# EAGLE library part HDMI (library work)
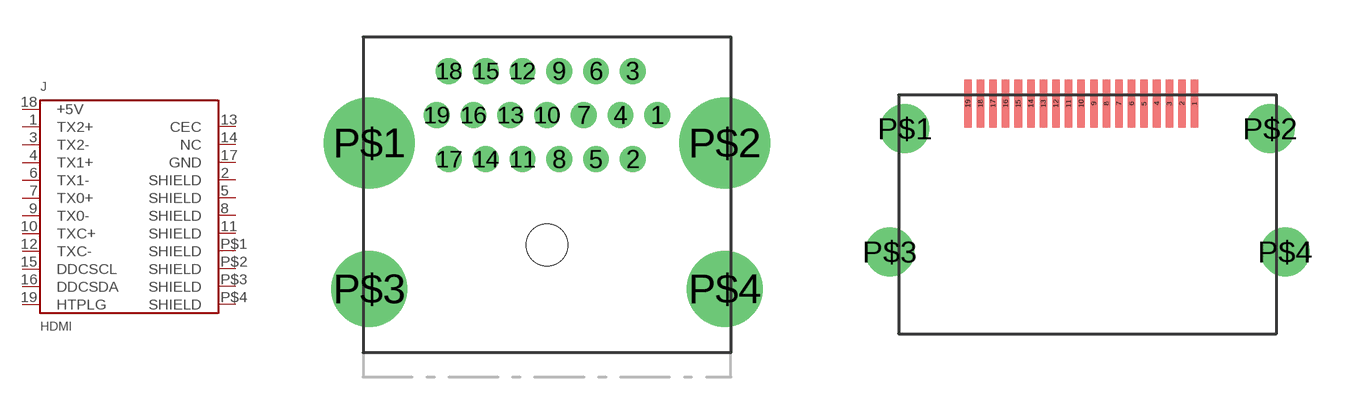
[diagram p44: symbol with the pads of HDMI_PTH; footprints HDMI_PTH, HDMI_SMD]

Designator prefix J

## HDMI-PTH  [HDMI_PTH]
1  TX2+
2  SHIELD
3  TX2-
4  TX1+
5  SHIELD
6  TX1-
7  TX0+
8  SHIELD
9  TX0-
10  TXC+
11  SHIELD
12  TXC-
13  CEC
14  NC
15  DDCSCL
16  DDCSDA
17  GND
18  +5V
19  HTPLG
P$1  SHIELD
P$2  SHIELD
P$3  SHIELD
P$4  SHIELD

## HDMI-SMD  [HDMI_SMD]
Pads as for HDMI_PTH

## Footprint HDMI_PTH (pad centres in mm)
drill 0.55: 1 4.5,0; 2 3.5,-1.8; 3 3.5,1.8; 4 3,0; 5 2,-1.8; 6 2,1.8; 7 1.5,0; 8 0.5,-1.8; 9 0.5,1.8; 10 0,0; 11 -1,-1.8; 12 -1,1.8; 13 -1.5,0; 14 -2.5,-1.8; 15 -2.5,1.8; 16 -3,0; 17 -4,-1.8; 18 -4,1.8; 19 -4.5,0
drill 2.7: P$1 -7.25,-1.14; P$2 7.25,-1.14
drill 2.1: P$3 -7.25,-7.1; P$4 7.25,-7.1
hole 1.7 at 0,-5.3

## Footprint HDMI_SMD (pad centres in mm)
smd 0.3 x 1.9: 1 4.25,0; 2 3.75,0; 3 3.25,0; 4 2.75,0; 5 2.25,0; 6 1.75,0; 7 1.25,0; 8 0.75,0; 9 0.25,0; 10 -0.25,0; 11 -0.75,0; 12 -1.25,0; 13 -1.75,0; 14 -2.25,0; 15 -2.75,0; 16 -3.25,0; 17 -3.75,0; 18 -4.25,0; 19 -4.75,0
drill 1.3: P$1 -7.25,-1; P$2 7.25,-1; P$3 -7.85,-5.9; P$4 7.85,-5.9